# EAGLE library part 613003218321 (library Wuerth_Elektronik_eiCan_Pin_&_Socked_Headers_v1.3)
WR-PHD 2.54mm SMT Pin Header, 32 Pins
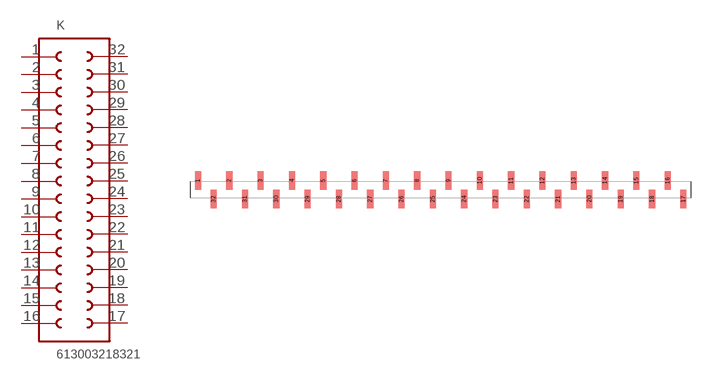
[diagram p87: symbol with the pads of 61003218321; footprint 61003218321]

Designator prefix K

## 613003218321  [61003218321]
1  1  pas
2  2  pas
3  3  pas
4  4  pas
5  5  pas
6  6  pas
7  7  pas
8  8  pas
9  9  pas
10  10  pas
11  11  pas
12  12  pas
13  13  pas
14  14  pas
15  15  pas
16  16  pas
17  17  pas
18  18  pas
19  19  pas
20  20  pas
21  21  pas
22  22  pas
23  23  pas
24  24  pas
25  25  pas
26  26  pas
27  27  pas
28  28  pas
29  29  pas
30  30  pas
31  31  pas
32  32  pas

## Footprint 61003218321 (pad centres in mm)
WR-PHD 2.54mm SMT Pin Header, 32 Pins
smd 1 x 3: 1 -39.37,1.5; 2 -34.29,1.5; 3 -29.21,1.5; 4 -24.13,1.5; 5 -19.05,1.5; 6 -13.97,1.5; 7 -8.89,1.5; 8 -3.81,1.5; 9 1.27,1.5; 10 6.35,1.5; 11 11.43,1.5; 12 16.51,1.5; 13 21.59,1.5; 14 26.67,1.5; 15 31.75,1.5; 16 36.83,1.5; 17 39.37,-1.5; 18 34.29,-1.5; 19 29.21,-1.5; 20 24.13,-1.5; 21 19.05,-1.5; 22 13.97,-1.5; 23 8.89,-1.5; 24 3.81,-1.5; 25 -1.27,-1.5; 26 -6.35,-1.5; 27 -11.43,-1.5; 28 -16.51,-1.5; 29 -21.59,-1.5; 30 -26.67,-1.5; 31 -31.75,-1.5; 32 -36.83,-1.5